# EAGLE library part AX5243 (library df4iah_rf)
AX5243 Advanced High Performance ASK and FSK Narrow-band Transceiver for 27 - 1050 MHz Range Reference: http://www.onsemi.com/PowerSolutions/product.do?id=AX5243
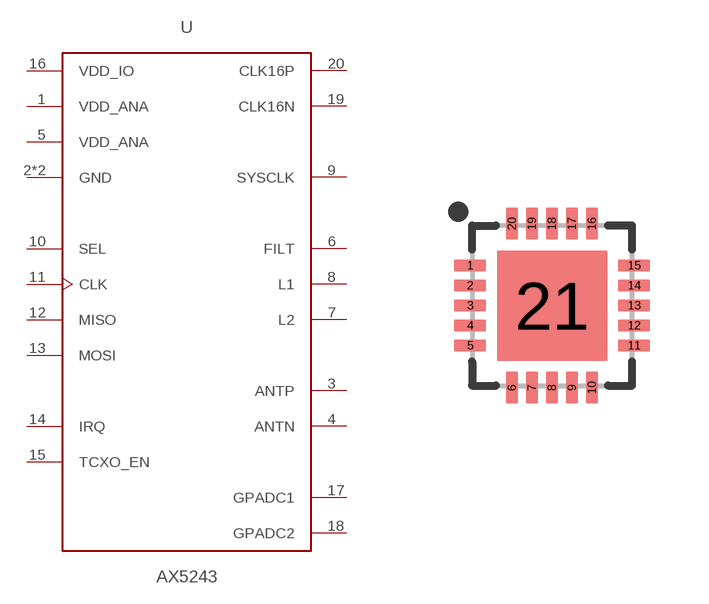
[diagram p0: symbol with the pads of QFN20-4X4-0P5-PAD; footprint QFN20-4X4-0P5-PAD]

Designator prefix U

## AX5243  [QFN20-4X4-0P5-PAD]
1  VDD_ANA  pas
2  GND  pwr
3  ANTP  pas
4  ANTN  pas
5  VDD_ANA  pas
6  FILT  pas
7  L2  pas
8  L1  pas
9  SYSCLK
10  SEL  in
11  CLK  in
12  MISO  out
13  MOSI  in
14  IRQ
15  TCXO_EN
16  VDD_IO  pwr
17  GPADC1  pas
18  GPADC2  pas
19  CLK16N  pas
20  CLK16P  pas
21  GND  pwr

## Footprint QFN20-4X4-0P5-PAD (pad centres in mm)
20-Pin QFN - 4.0 x 4.0 mm - 0.5P - with center pad Reference: http://www.onsemi.com/pub/Collateral/AX5243-D.PDF.
smd 0.8 x 0.3: 1 -2.05,1; 2 -2.05,0.5; 3 -2.05,0; 4 -2.05,-0.5; 5 -2.05,-1; 11 2.05,-1; 12 2.05,-0.5; 13 2.05,0; 14 2.05,0.5; 15 2.05,1
smd 0.3 x 0.8: 6 -1,-2.05; 7 -0.5,-2.05; 8 0,-2.05; 9 0.5,-2.05; 10 1,-2.05; 16 1,2.05; 17 0.5,2.05; 18 0,2.05; 19 -0.5,2.05; 20 -1,2.05
smd 2.75 x 2.75: 21 0,0